# Altium schematic symbol library passiveCompsLib.SchLib: 31 symbols
Pins are listed as number, name and electrical type; pins without a type are passive.

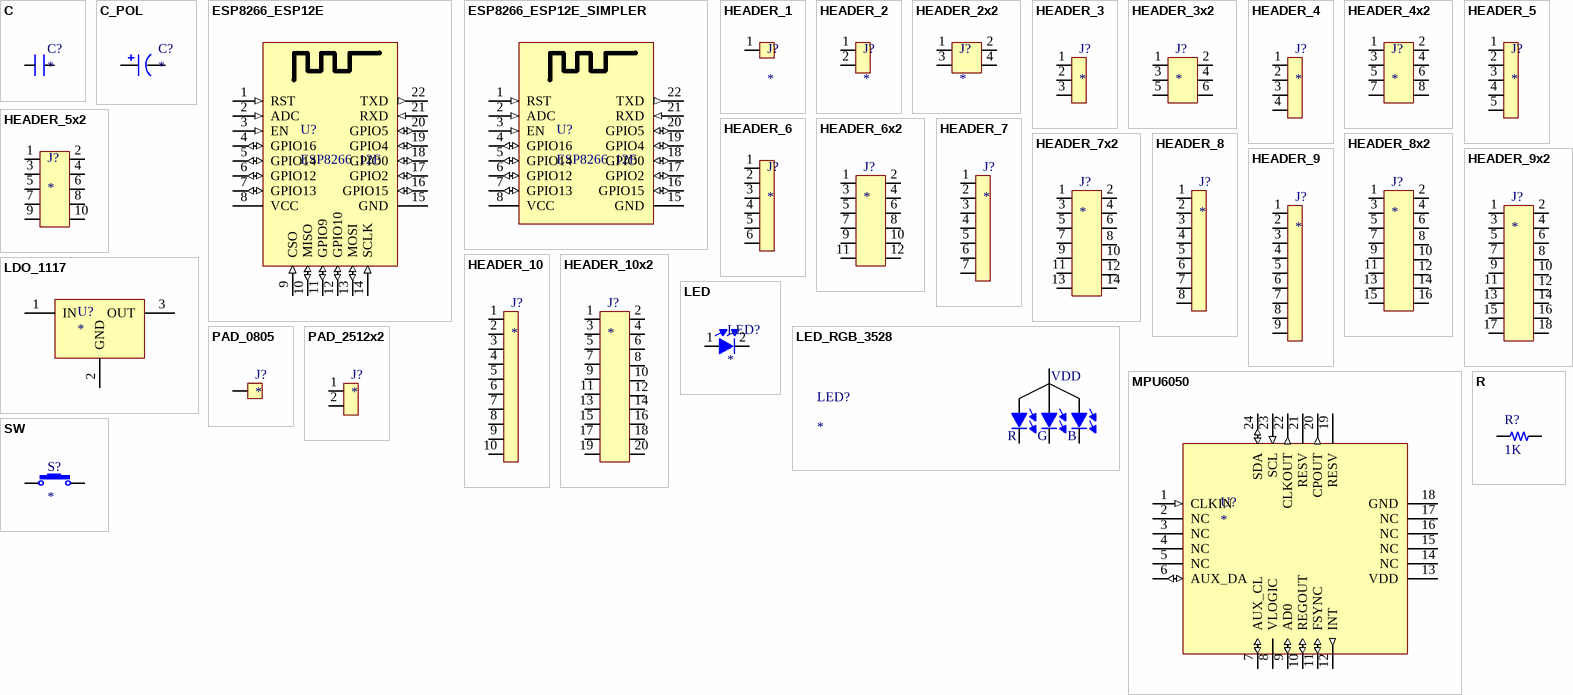
[diagram p0: symbols C to SW]

## C
designator C?
footprint SMD_RC_0201
footprint SMD_RC_0402
footprint SMD_RC_0603
footprint SMD_RC_0805
footprint SMD_RC_1206
footprint SMD_RC_1210
footprint SMD_RC_2010
footprint SMD_RC_2512
pins: 1, 2

## C_POL
designator C?
footprint SMD_TANTAL_1206
footprint SMD_TANTAL_1210
footprint SMD_TANTAL_2312
footprint SMD_TANTAL_2917
footprint SMD_TANTAL_2924
pins: 1, 2

## ESP8266_ESP12E
designator U?, comment ESP8266_12E
footprint ESP8266_ESP12E
pins: 1 RST (in), 2 ADC (in), 3 EN (in), 4 GPIO16 (io), 5 GPIO14 (io), 6 GPIO12 (io), 7 GPIO13 (io), 8 VCC (power), 9 CSO (in), 10 MISO (io), 11 GPIO9 (io), 12 GPIO10 (io), 13 MOSI (io), 14 SCLK (in), 15 GND (power), 16 GPIO15 (io), 17 GPIO2 (io), 18 GPIO0 (io), 19 GPIO4 (io), 20 GPIO5 (io), 21 RXD (in), 22 TXD (out)

## ESP8266_ESP12E_SIMPLER
designator U?, comment ESP8266_12E
footprint ESP8266_ESP12E_SIMPLER
pins: 1 RST (in), 2 ADC (in), 3 EN (in), 4 GPIO16 (io), 5 GPIO14 (io), 6 GPIO12 (io), 7 GPIO13 (io), 8 VCC (power), 15 GND (power), 16 GPIO15 (io), 17 GPIO2 (io), 18 GPIO0 (io), 19 GPIO4 (io), 20 GPIO5 (io), 21 RXD (in), 22 TXD (out)

## HEADER_1
designator J?
pins: 1

## HEADER_2
designator J?
pins: 1, 2

## HEADER_2x2
designator J?
pins: 1, 2, 3, 4

## HEADER_3
designator J?
pins: 1, 2, 3

## HEADER_3x2
designator J?
pins: 1, 2, 3, 4, 5, 6

## HEADER_4
designator J?
pins: 1, 2, 3, 4

## HEADER_4x2
designator J?
pins: 1, 2, 3, 4, 5, 6, 7, 8

## HEADER_5
designator J?
pins: 1, 2, 3, 4, 5

## HEADER_5x2
designator J?
pins: 1, 2, 3, 4, 5, 6, 7, 8, 9, 10

## HEADER_6
designator J?
pins: 1, 2, 3, 4, 5, 6

## HEADER_6x2
designator J?
pins: 1, 2, 3, 4, 5, 6, 7, 8, 9, 10, 11, 12

## HEADER_7
designator J?
pins: 1, 2, 3, 4, 5, 6, 7

## HEADER_7x2
designator J?
pins: 1, 2, 3, 4, 5, 6, 7, 8, 9, 10, 11, 12, 13, 14

## HEADER_8
designator J?
pins: 1, 2, 3, 4, 5, 6, 7, 8

## HEADER_8x2
designator J?
pins: 1, 2, 3, 4, 5, 6, 7, 8, 9, 10, 11, 12, 13, 14, 15, 16

## HEADER_9
designator J?
pins: 1, 2, 3, 4, 5, 6, 7, 8, 9

## HEADER_9x2
designator J?
pins: 1, 2, 3, 4, 5, 6, 7, 8, 9, 10, 11, 12, 13, 14, 15, 16, 17, 18

## HEADER_10
designator J?
pins: 1, 2, 3, 4, 5, 6, 7, 8, 9, 10

## HEADER_10x2
designator J?
pins: 1, 2, 3, 4, 5, 6, 7, 8, 9, 10, 11, 12, 13, 14, 15, 16, 17, 18, 19, 20

## LDO_1117
designator U?
footprint SOT-223
pins: 1 IN (power), 2 GND (power), 3 OUT (power)

## LED
designator LED?
footprint SMD_LED_0805
footprint SMD_LED_0603
pins: 1, 2

## LED_RGB_3528
designator LED?
ComponentLink1Description: LED 3528 - TGIC; ComponentLink1URL: https://thegioiic.com/products/led-rgb-3528
footprint SMD_LED_RGB_3528
pins: 1 RED, 2 VDD, 3 BLUE, 4 GREEN
text: R; G; B

## MPU6050
designator U?
footprint QUAD_24_EXTENDED
pins: 1 CLKIN (in), 2 NC, 3 NC, 4 NC, 5 NC, 6 AUX_DA (io), 7 AUX_CL (io), 8 VLOGIC (power), 9 AD0 (io), 10 REGOUT (io), 11 FSYNC (io), 12 INT (out), 13 VDD (power), 14 NC, 15 NC, 16 NC, 17 NC, 18 GND (power), 19 RESV, 20 CPOUT (out), 21 RESV, 22 CLKOUT (out), 23 SCL (in), 24 SDA (io)

## PAD_0805
designator J?
footprint PAD_0805
pins: 1 NO_WHERE

## PAD_2512x2
designator J?
footprint PAD_2512x2
pins: 1, 2

## R
designator R?, comment 1K
footprint SMD_RC_0201
footprint SMD_RC_0402
footprint SMD_RC_0603
footprint SMD_RC_0805
footprint SMD_RC_1206
footprint SMD_RC_1210
footprint SMD_RC_2010
footprint SMD_RC_2512
pins: 1, 2

## SW
designator S?
ComponentLink1Description: TheGioiIC; ComponentLink1URL: https://thegioiic.com/products/nut-nhan-3x4-cao-2-5mm-2pin-smd
footprint SW_SMD_1
pins: 1, 2